# EAGLE library part MMA7361LC (library Railstars)
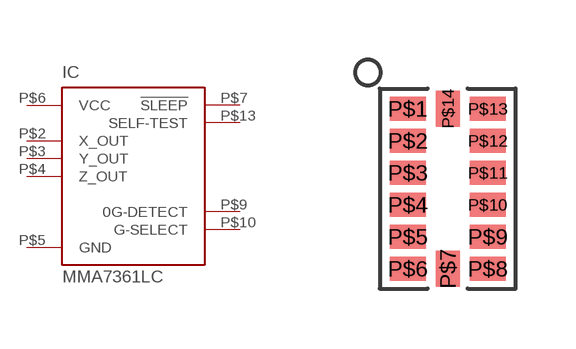
[diagram p8: symbol with the pads of LGA14; footprint LGA14]

Designator prefix IC

## MMA7361LC  [LGA14]
P$1  P$1  nc
P$2  X_OUT
P$3  Y_OUT
P$4  Z_OUT
P$5  GND
P$6  VCC
P$7  !SLEEP
P$8  P$8  nc
P$9  0G-DETECT
P$10  G-SELECT
P$11  P$11  nc
P$12  P$12  nc
P$13  SELF-TEST
P$14  P$14  nc

## Footprint LGA14 (pad centres in mm)
smd 0.9 x 0.6: P$1 -1,2; P$2 -1,1.2; P$3 -1,0.4; P$4 -1,-0.4; P$5 -1,-1.2; P$6 -1,-2; P$8 1,-2; P$9 1,-1.2; P$10 1,-0.4; P$11 1,0.4; P$12 1,1.2; P$13 1,2
smd 0.6 x 0.9: P$7 0,-2; P$14 0,2